# Altium footprint library SuperKnob.PcbLib: 20 footprints (part 2 of 2)
Each footprint in its own frame and in the unit in brackets; x right, y up, seen from the top. Pads: shape width x height; smd on the part's side, far side on the other; paste and mask are expansions set on the pad; w line width, h text height; cw(c..) or ccw(c..) is an arc to the next point about the centre after c.
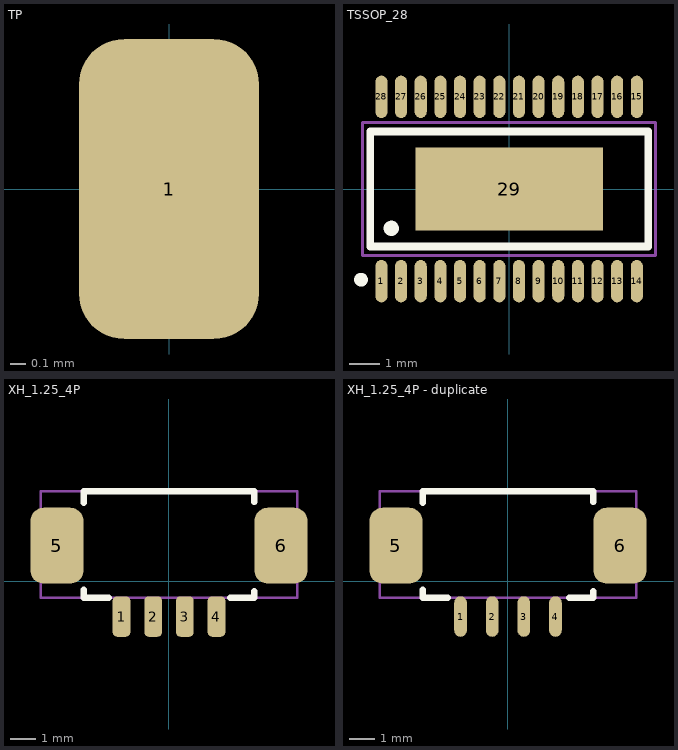
[diagram p1: the footprints below, top view; thin cyan lines are the x and y axes]

## TP [mm]
pads (1):
  rrect50% 1.2x2 smd: 1(0,0)

## TSSOP_28 [mm] "0.65"
pads (29):
  oval 0.4x1.4 smd: 1(-4.225,-3.05) 2(-3.575,-3.05) 3(-2.925,-3.05) 4(-2.275,-3.05) 5(-1.625,-3.05) 6(-0.975,-3.05) 7(-0.325,-3.05) 8(0.325,-3.05) 9(0.975,-3.05) 10(1.625,-3.05) 11(2.275,-3.05) 12(2.925,-3.05) 13(3.575,-3.05) 14(4.225,-3.05) 15(4.225,3.05) 16(3.575,3.05) 17(2.925,3.05) 18(2.275,3.05) 19(1.625,3.05) 20(0.975,3.05) 21(0.325,3.05) 22(-0.325,3.05) 23(-0.975,3.05) 24(-1.625,3.05) 25(-2.275,3.05) 26(-2.925,3.05) 27(-3.575,3.05) 28(-4.225,3.05)
  rect 6.2x2.75 smd: 29(0,0)
Top Overlay:
  circle w0.254: c-4.9,-3 r0.1
  circle w0.3: c-3.9,-1.3 r0.1
  lines w0.254: -4.6,-1.9 -4.6,1.9 4.6,1.9 4.6,-1.9 -4.6,-1.9
Mechanical 15:
  lines w0.1: -0.5,0 0.5,0 ; 0,-0.5 0,0.5 ; -4.85,-2.2 -4.85,2.2 4.85,2.2 4.85,-2.2 -4.85,-2.2
3D body "TSSOP-28.STEP": height 1.2, standoff 0, extent -4.85,-3.2 4.85,3.2

## XH_1.25_4P [mm]
pads (6):
  rrect50% 0.7x1.6 smd: 1(-1.875,-1.4) 2(-0.625,-1.4) 3(0.625,-1.4) 4(1.875,-1.4)
  rrect50% 2.1x3 smd: 5(-4.425,1.4) 6(4.425,1.4)
Top Overlay:
  lines w0.254: -3.375,-0.35 -3.375,-0.65 -2.375,-0.65 ; -3.375,3.1 -3.375,3.55 3.375,3.55 3.375,3.125 ; 2.425,-0.65 3.375,-0.65 3.375,-0.4
Mechanical 15:
  lines w0.1: -5.075,-0.65 -5.075,3.55 5.075,3.55 5.075,-0.65 -5.075,-0.65
3D body "XH1.25-4P-SMD.STEP": height 3.5, standoff 0, extent -5.075,-1.65 5.075,3.55

## XH_1.25_4P - duplicate [mm]
pads (6):
  oval 0.5x1.6 smd: 1(-1.875,-1.4) 2(-0.625,-1.4) 3(0.625,-1.4) 4(1.875,-1.4)
  rrect50% 2.1x3 smd: 5(-4.425,1.4) 6(4.425,1.4)
Top Overlay:
  lines w0.254: -3.375,-0.35 -3.375,-0.65 -2.375,-0.65 ; -3.375,3.1 -3.375,3.55 3.375,3.55 3.375,3.125 ; 2.425,-0.65 3.375,-0.65 3.375,-0.4
Mechanical 15:
  lines w0.1: -5.075,-0.65 5.075,-0.65 5.075,3.55 -5.075,3.55 -5.075,-0.65
3D body "XH1.25-4P-SMD.STEP": height 3.5, standoff 0, extent -5.075,-1.65 5.075,3.55